# EAGLE library part 61801525023 (library Wurth-USB)
WR-DSUB Male PCB Connector 15 Pins=>Code : Con_I-O_DSUB_PCB_Male_61801525023 <https://katalog.we-online.com/media/images/v2/o33086v209%20Family_I-O_DSUB_PCB_Male_6180xx25023_pf2.jpg> Details see: https://katalog.we-online.com/en/em/DSUB_MALE_PCB_CONNECTOR_6180XX25023 Updated by Ella Wu 2019-03-14 2019 (C) Würth Elektronik
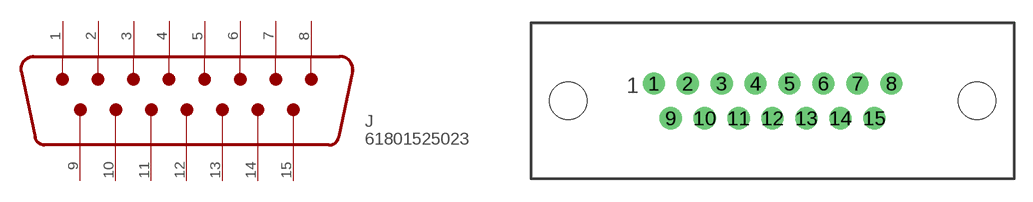
[diagram p1: symbol with the pads of 61801525023; footprint 61801525023]

Designator prefix J

## 61801525023 (WE-NUMBER: 61801525023)  [61801525023]
1  1
2  2
3  3
4  4
5  5
6  6
7  7
8  8
9  9
10  10
11  11
12  12
13  13
14  14
15  15

## Footprint 61801525023 (pad centres in mm)
WR-DSUB Male PCB Connector, 15 Pins
drill 1.2: 1 -9.7,1.42; 2 -6.93,1.42; 3 -4.16,1.42; 4 -1.39,1.42; 5 1.38,1.42; 6 4.15,1.42; 7 6.92,1.42; 8 9.69,1.42; 9 -8.315,-1.42; 10 -5.545,-1.42; 11 -2.775,-1.42; 12 -0.005,-1.42; 13 2.765,-1.42; 14 5.535,-1.42; 15 8.305,-1.42
hole 3.05 at -16.66,0
hole 3.05 at 16.66,0